# Altium schematic symbol library 662003013322.SchLib: 1 symbol
Pins are listed as number, name and electrical type; pins without a type are passive.

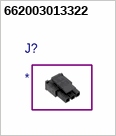
[diagram p0: symbol 662003013322]

## 662003013322
designator J?